# EAGLE library part MLD203CLN (library laser diode)
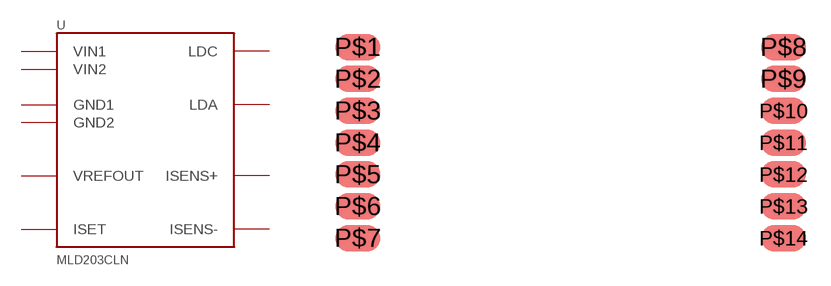
[diagram p0: symbol with the pads of MLD203; footprint MLD203]

Designator prefix -

## MLD203CLN  [MLD203]
P$1  VIN1  pwr
P$2  VIN2  pwr
P$3  GND1  pwr
P$4  GND2  pwr
P$5  VREFOUT
P$6  ISET
P$11  LDC
P$12  ISENS+
P$13  ISENS-
P$14  LDA

## Footprint MLD203 (pad centres in mm)
smd 1.8 x 1.05: P$1 0,0; P$2 0,-1.27; P$3 0,-2.54; P$4 0,-3.81; P$5 0,-5.08; P$6 0,-6.35; P$7 0,-7.62; P$8 17,0; P$9 17,-1.27; P$10 17,-2.54; P$11 17,-3.81; P$12 17,-5.08; P$13 17,-6.35; P$14 17,-7.62